# EAGLE library part 78L_SO8 (library #PaJa_31)
Stabilizátor SMD - 100mA ?? - napeti => 05, 08, 09, 12, 15
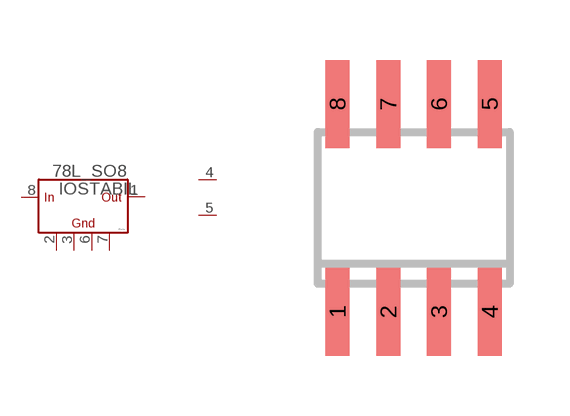
[diagram p55: symbol with the pads of SO08; footprint SO08]

Designator prefix IO; gates STABIL=LM78L_SMD G$2=NC G$3=NC

## 78L_SO8  [SO08]
1  STABIL:OUT  out
2  STABIL:GND  pwr
3  STABIL:GND  pwr
4  G$2:P$1  nc
5  G$3:P$1  nc
6  STABIL:GND  pwr
7  STABIL:GND  pwr
8  STABIL:IN  pas

## Footprint SO08 (pad centres in mm)
smd 0.6 x 2.2: 1 -1.905,-2.6; 2 -0.635,-2.6; 3 0.635,-2.6; 4 1.905,-2.6; 5 1.905,2.6; 6 0.635,2.6; 7 -0.635,2.6; 8 -1.905,2.6